# Altium footprint library BLDC_driver.PcbLib: 23 footprints (part 2 of 2)
Each footprint in its own frame and in the unit in brackets; x right, y up, seen from the top. Pads: shape width x height; smd on the part's side, far side on the other; paste and mask are expansions set on the pad; w line width, h text height; cw(c..) or ccw(c..) is an arc to the next point about the centre after c.
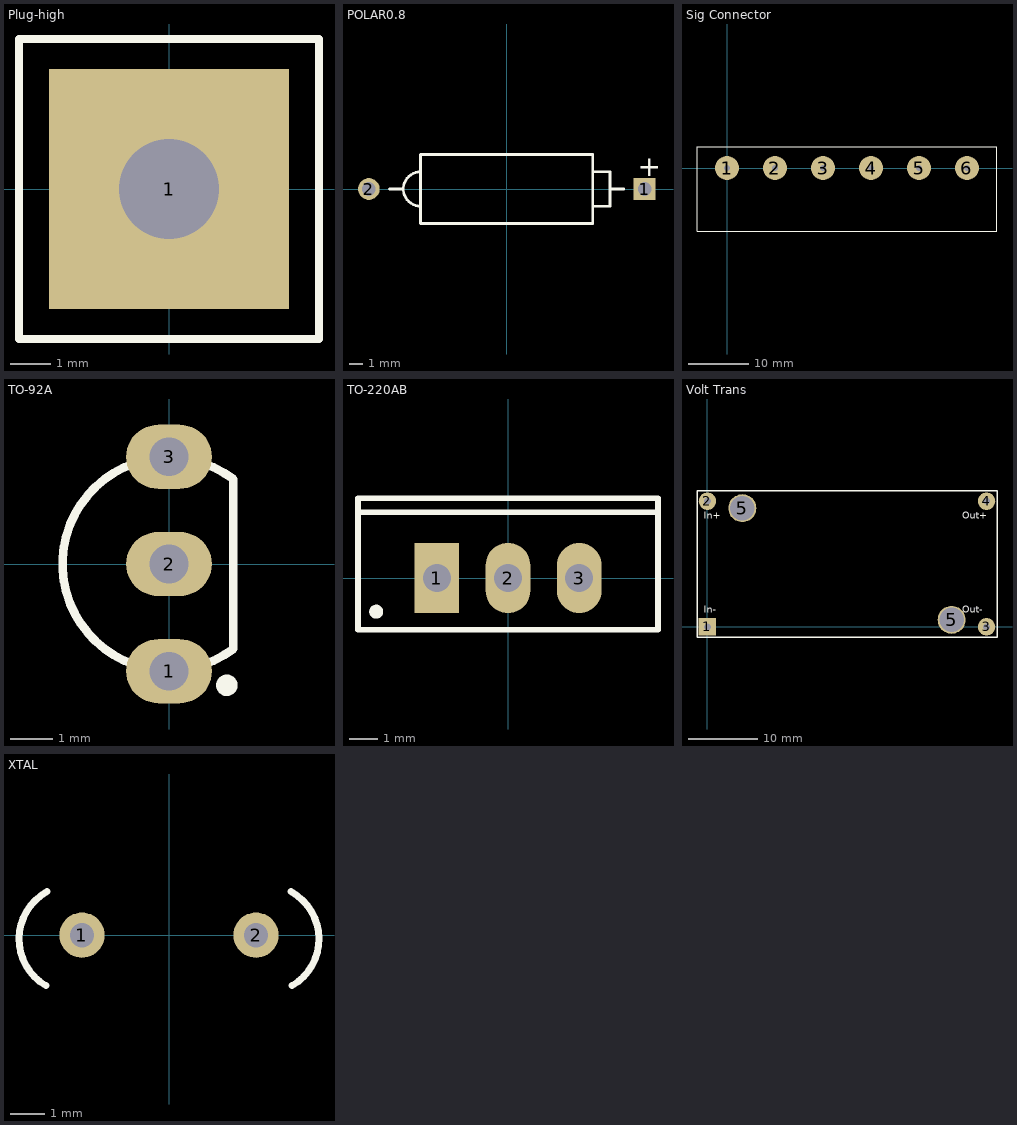
[diagram p1: the footprints below, top view; thin cyan lines are the x and y axes]

## Plug-high [mm] "Generic Antenna; 1 Lead"
height 5.08
pads (1):
  rect 6x6 hole 2.5: 1(0,0)
Top Overlay:
  lines w0.2: -3.75,-3.75 -3.75,3.75 3.75,3.75 3.75,-3.75 -3.75,-3.75

## POLAR0.8 [mm] "Polarized Capacitor; 2 Leads"
height 5.08
pads (2):
  rect 1.6x1.6 hole 1: 1(10.16,0)
  round 1.6 hole 1: 2(-10.16,0)
Top Overlay:
  lines w0.2: -8.636,0 -7.62,0 ; -6.35,-1.27 cw(c-6.35,0) -6.35,1.27 ; 6.35,-1.27 7.62,-1.27 7.62,1.27 6.35,1.27 ; 7.62,0 8.636,0 ; -6.35,-2.54 6.35,-2.54 6.35,2.54 -6.35,2.54 -6.35,-2.54
  text "+" at 9.652,0.95 h1.5

## Sig Connector [mm] "Connector; Header; 6 Position"
height 6.86
pads (6):
  round 4 hole 1: 1(0,0) 2(8,0) 3(16,0) 4(24,0) 5(32,0) 6(40,0)
Top Overlay:
  lines w0.2: -5,-10.5 -5,3.5 45,3.5 45,-10.5 -5,-10.5

## TO-92A [mm] "TO, Flat Index; 3 In-Line, Axial Leads; Body Dia. 4.5mm; Leads 0.51 x 0.48 mm (max)"
height 6.86
pads (3):
  oval 2x1.5 hole 0.9: 1(0,-2.5) 2(0,0) 3(0,2.5)
Top Overlay:
  circle w0.25: c1.35,-2.83 r0.125
  lines w0.2: 1.5,-1.98 cw(c0,0) 1.5,1.98 1.5,-1.98
Mechanical 13:
  lines w0.1: 1.5,-1.98 cw(c0,0) 1.5,1.98 1.5,-1.98
Mechanical 15:
  lines w0.1: -0.5,0 0.5,0 ; 0,-0.5 0,0.5

## TO-220AB [mm] "TO, Thru-Hole, Vertical, Heatsink Mounted; 3 In-Line Leads; Pitch 2.54 mm"
height 19.3
pads (3):
  rect 1.6x2.5 hole 1: 1(-2.54,0)
  oval 1.6x2.5 hole 1: 2(0,0) 3(2.54,0)
Top Overlay:
  circle w0.25: c-4.7,-1.2 r0.125
  lines w0.2: -5.35,2.35 5.35,2.35 ; -5.35,-1.85 5.35,-1.85 5.35,2.85 -5.35,2.85 -5.35,-1.85
Mechanical 13:
  lines w0.1: -5.35,-1.85 -5.35,2.85 5.35,2.85 5.35,-1.85 -5.35,-1.85
Mechanical 15:
  lines w0.1: -0.5,0 0.5,0 ; 0,-0.5 0,0.5

## Volt Trans [mm] "Connector; Header; 2x2 Position"
height 5.08
pads (6):
  rect 2.5x2.5 hole 1: 1(0,0)
  round 2.5 hole 1: 2(0,18) 3(40,0) 4(40,18)
  round 4 hole 3.5: 5(5,17) 5(35,1)
Top Overlay:
  lines w0.2: -1.5,-1.5 41.5,-1.5 41.5,19.5 -1.5,19.5 -1.5,-1.5
  text "Out+" at 36.5,15.5 h1
  text "In+" at -0.5,15.5 h1
  text "Out-" at 36.5,2 h1
  text "In-" at -0.5,2 h1

## XTAL [mm] "Crystal, Thru-Hole; 2 Leads; Body 3.1 x 8.2 mm (Dia.xH)"
height 8.2
pads (2):
  round 1.3 hole 0.7: 1(-2.5,0) 2(2.5,0)
Top Overlay:
  lines w0.2: -3.534,-1.452 cw(c-2.758,-0.111) -3.5,1.25 ; 3.5,1.25 cw(c2.758,-0.111) 3.534,-1.452